# EAGLE library part MCP4821 (library zkseagle)
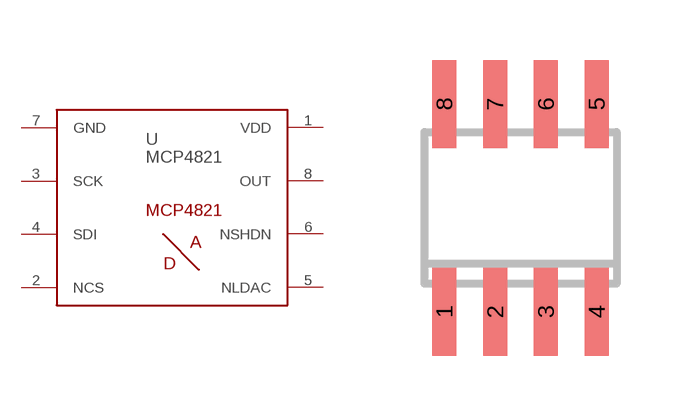
[diagram p14: symbol with the pads of SO08; footprint SO08]

Designator prefix -

## MCP4821  [SO08]
1  VDD  pwr
2  NCS  in
3  SCK  in
4  SDI  in
5  NLDAC  in
6  NSHDN  in
7  GND  pwr
8  OUT  out

## Footprint SO08 (pad centres in mm)
Small Outline Package 8 NS Package M08A
smd 0.6 x 2.2: 1 -1.905,-2.6; 2 -0.635,-2.6; 3 0.635,-2.6; 4 1.905,-2.6; 5 1.905,2.6; 6 0.635,2.6; 7 -0.635,2.6; 8 -1.905,2.6